# EAGLE library part 66202221022 (library Wire-to-Board (rev18a))
WR-MPC3 3.00mm Male Dual Row Angled Header with Plastic Pegs, 22 Pins=>Code : Con_WTB-MPC3_2_PCB_THT66202221022 <http://katalog.we-online.de/media/thumbs2/eican/thb_Con_WTB-MPC3_2_PCB_THT86220xx21022_pf2.jpg> Details see: http://katalog.we-online.de/en/em/MPC3_3_00_MALE_DUAL_ROW_ANGLED_HEADER_W_PLASTIC_PEGS_6620XX21022 Created 2014-06-06, Karrer Zheng 2014 (C) Würth Elektronik
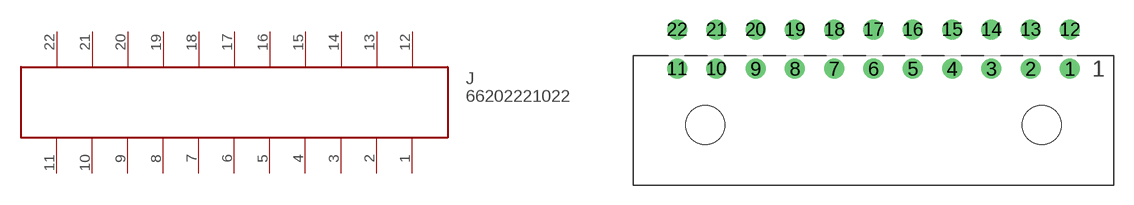
[diagram p395: symbol with the pads of 66202221022; footprint 66202221022]

Designator prefix J

## 66202221022  [66202221022]
1  1
2  2
3  3
4  4
5  5
6  6
7  7
8  8
9  9
10  10
11  11
12  12
13  13
14  14
15  15
16  16
17  17
18  18
19  19
20  20
21  21
22  22

## Footprint 66202221022 (pad centres in mm)
WR-MPC3 3.00mm Male Dual Row Angled Header with Plastic Pegs, 22 Pins
drill 1.02: 1 15,4.3; 2 12,4.3; 3 9,4.3; 4 6,4.3; 5 3,4.3; 6 0,4.3; 7 -3,4.3; 8 -6,4.3; 9 -9,4.3; 10 -12,4.3; 11 -15,4.3; 12 15,7.3; 13 12,7.3; 14 9,7.3; 15 6,7.3; 16 3,7.3; 17 0,7.3; 18 -3,7.3; 19 -6,7.3; 20 -9,7.3; 21 -12,7.3; 22 -15,7.3
hole 3 at 12.85,0
hole 3 at -12.85,0